# EAGLE library part TDA7370B (library Audio-Power-amlifier V.2.0)
The TDA7370B is a new technology class AB quad channels Audio Power Amplifier in Multiwatt package designed for car radio applications. Thanks to the fully complementary PNP/NPN output configuration the high power performances of the TDA7370B are obtained without bootstrap capacitors.
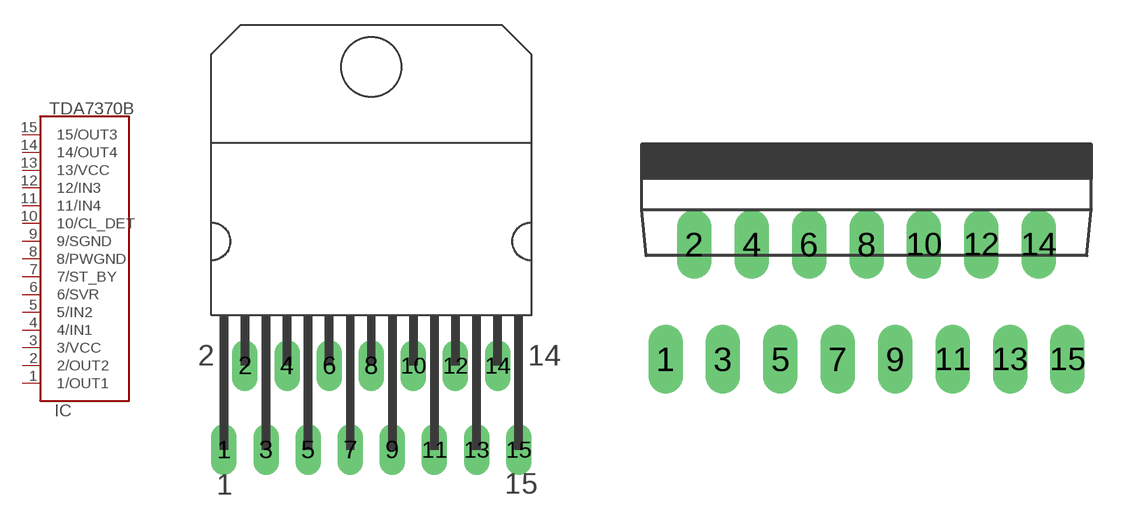
[diagram p223: symbol with the pads of MULTIWATT-15H; footprints MULTIWATT-15H, MULTIWATT-15V]

Designator prefix IC

## TDA7370BH  [MULTIWATT-15H]
1  1/OUT1  out
2  2/OUT2  out
3  3/VCC  pwr
4  4/IN1  in
5  5/IN2  in
6  6/SVR  in
7  7/ST_BY  in
8  8/PWGND  pwr
9  9/SGND  pwr
10  10/CL_DET
11  11/IN4  in
12  12/IN3  in
13  13/VCC  pwr
14  14/OUT4  out
15  15/OUT3  out

## TDA7370BV  [MULTIWATT-15V]
Pads as for MULTIWATT-15H

## Footprint MULTIWATT-15H (pad centres in mm)
Multiwatt 15 horizontal
drill 1.016 long: 1 -8.89,-5.08; 2 -7.62,0; 3 -6.35,-5.08; 4 -5.08,0; 5 -3.81,-5.08; 6 -2.54,0; 7 -1.27,-5.08; 8 0,0; 9 1.27,-5.08; 10 2.54,0; 11 3.81,-5.08; 12 5.08,0; 13 6.35,-5.08; 14 7.62,0; 15 8.89,-5.08

## Footprint MULTIWATT-15V (pad centres in mm)
Multiwatt 15 vertical
drill 1.016 long: 1 -8.89,-5.08; 2 -7.62,0; 3 -6.35,-5.08; 4 -5.08,0; 5 -3.81,-5.08; 6 -2.54,0; 7 -1.27,-5.08; 8 0,0; 9 1.27,-5.08; 10 2.54,0; 11 3.81,-5.08; 12 5.08,0; 13 6.35,-5.08; 14 7.62,0; 15 8.89,-5.08